# EAGLE library part 74LVC138A (library PAS)
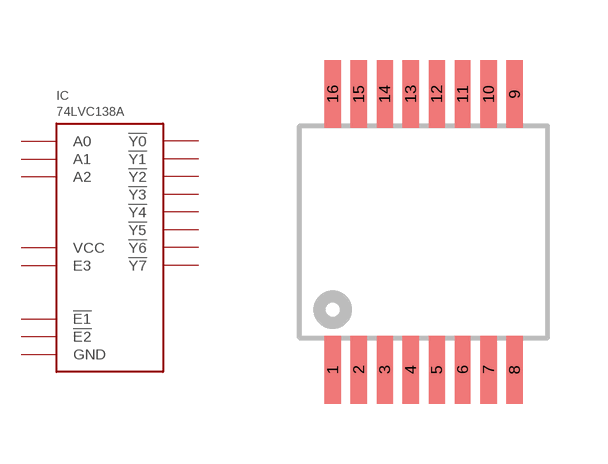
[diagram p13: symbol with the pads of SOT-338; footprint SOT-338]

Designator prefix IC

## 74LVC138A  [SOT-338]
1  A0  pas
2  A1  pas
3  A2  pas
4  !E1  pas
5  !E2  pas
6  E3  pas
7  !Y7  pas
8  GND  pas
9  !Y6  pas
10  !Y5  pas
11  !Y4  pas
12  !Y3  pas
13  !Y2  pas
14  !Y1  pas
15  !Y0  pas
16  VCC  pas

## Footprint SOT-338 (pad centres in mm)
SOT-338 also known as the SSOP16 from NXP body width 5.3mm length 6.2mm pitch .65mm
smd 0.4 x 1.7: 1 -2.275,-3.45; 2 -1.625,-3.45; 3 -0.975,-3.45; 4 -0.325,-3.45; 5 0.325,-3.45; 6 0.975,-3.45; 7 1.625,-3.45; 8 2.275,-3.45; 9 2.275,3.45; 10 1.625,3.45; 11 0.975,3.45; 12 0.325,3.45; 13 -0.325,3.45; 14 -0.975,3.45; 15 -1.625,3.45; 16 -2.275,3.45